# EAGLE library part ADP175*-R7 (library NewSDR)
Analog Devices 0.8A, Low Vin, Low Dropout Linear Regulator
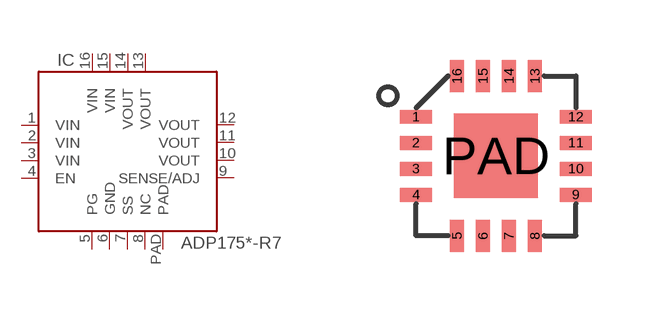
[diagram p160: symbol with the pads of LFCSP16_4X4_2.1; footprint LFCSP16_4X4_2.1]

Designator prefix IC

## ADP1752ACPZ-0.75-R7, ADP1752ACPZ-1.0-R7, ADP1752ACPZ-1.1-R7, ADP1752ACPZ-1.2-R7, ADP1752ACPZ-1.5-R7, ADP1752ACPZ-1.8-R7, ADP1752ACPZ-2.5-R7, ADP1753ACPZ-R7  [LFCSP16_4X4_2.1]
1  VIN  pas
2  VIN  pas
3  VIN  pas
4  EN  in
5  PG  out
6  GND  pwr
7  SS  pas
8  NC  nc
9  SENSE/ADJ  pas
10  VOUT  pas
11  VOUT  pas
12  VOUT  pas
13  VOUT  pas
14  VOUT  pas
15  VIN  pas
16  VIN  pas
PAD  PAD  pwr

## Footprint LFCSP16_4X4_2.1 (pad centres in mm)
16 Lead LFCSP 4x4mm with 2.1mm SQ Pad
smd 0.8 x 0.35: 1 -2,0.975; 2 -2,0.325; 3 -2,-0.325; 4 -2,-0.975; 9 2,-0.975; 10 2,-0.325; 11 2,0.325; 12 2,0.975
smd 0.35 x 0.8: 5 -0.975,-2; 6 -0.325,-2; 7 0.325,-2; 8 0.975,-2; 13 0.975,2; 14 0.325,2; 15 -0.325,2; 16 -0.975,2
smd 2.1 x 2.1: PAD 0,0